# EAGLE library part NLAS4684 (library NLAS4684)
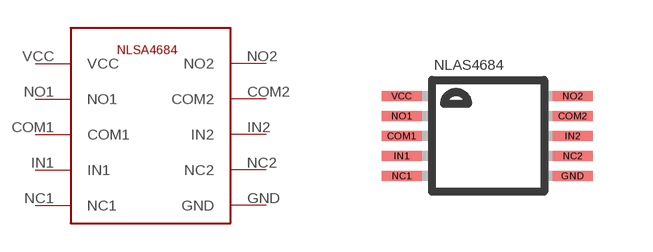
[diagram p0: symbol with the pads of MSOP-10; footprint MSOP-10]

Designator prefix -

## NLAS4684  [MSOP-10]
COM1  COM1
COM2  COM2
GND  GND
IN1  IN1
IN2  IN2
NC1  NC1
NC2  NC2
NO1  NO1
NO2  NO2
VCC  VCC

## Footprint MSOP-10 (pad centres in mm)
smd 1 x 0.25: COM1 -2.163,0; COM2 2.113,0.5; GND 2.113,-1; IN1 -2.163,-0.5; IN2 2.113,0; NC1 -2.163,-1; NC2 2.113,-0.5; NO1 -2.163,0.5; NO2 2.113,1; VCC -2.163,1